# Altium footprint library VOLTAGE REGULATOR - LINEAR.PcbLib: 1 footprints
Each footprint in its own frame and in the unit in brackets; x right, y up, seen from the top. Pads: shape width x height; smd on the part's side, far side on the other; paste and mask are expansions set on the pad; w line width, h text height; cw(c..) or ccw(c..) is an arc to the next point about the centre after c.
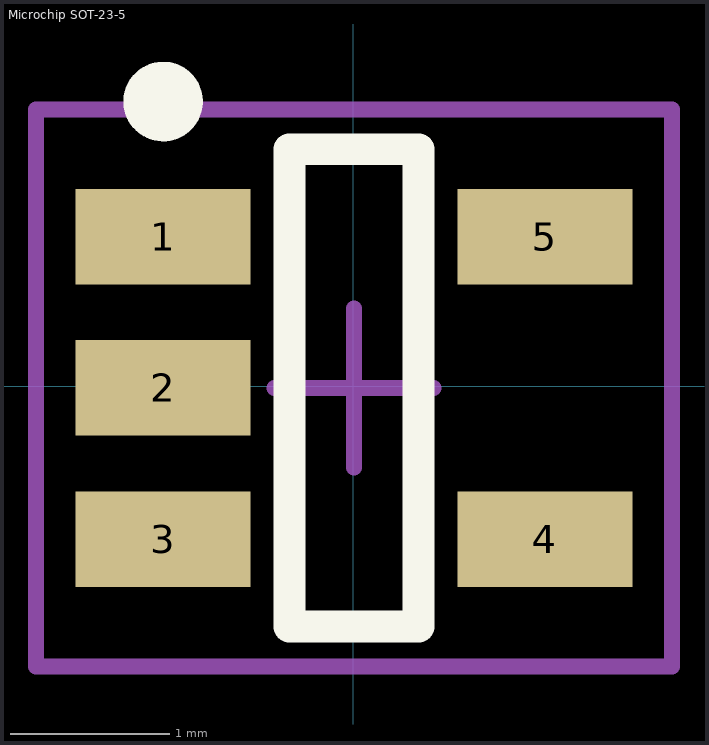
[diagram p0: the footprint, top view; thin cyan lines are the x and y axes]

## Microchip SOT-23-5 [mm]
height 1.45
pads (5):
  rect 1.1x0.6 smd: 1(-1.194,0.94) 2(-1.194,-0.01) 3(-1.194,-0.96) 4(1.206,-0.96) 5(1.206,0.94)
Top Overlay:
  circle w0.25: c-1.194,1.79 r0.125
  lines w0.2: -0.4,-1.51 -0.4,1.49 0.413,1.49 0.413,-1.51 -0.4,-1.51
Mechanical 15:
  lines w0.1: -0.494,-0.01 0.506,-0.01 ; 0.006,-0.51 0.006,0.49 ; -1.994,-1.76 2.006,-1.76 2.006,1.74 -1.994,1.74 -1.994,-1.76
3D body "SOT23-5.STEP": height 1.08, standoff -0.02, extent -1.37,-1.471 1.431,1.429